# EAGLE library part DEC-FLIPCHIP (library con-dec2)
DEC Flip-Chip single card fingers
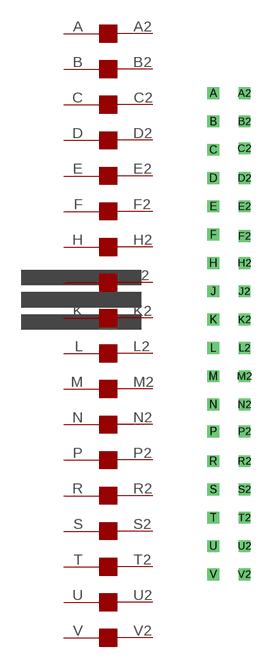
[diagram p0: symbol with the pads of DEC-FLIPCHIP; footprint DEC-FLIPCHIP]

Designator prefix -

## DEC-FLIPCHIP  [DEC-FLIPCHIP]
A  A  pas
A2  A2  pas
B  B  pas
B2  B2  pas
C  C  pas
C2  C2  pas
D  D  pas
D2  D2  pas
E  E  pas
E2  E2  pas
F  F  pas
F2  F2  pas
H  H  pas
H2  H2  pas
J  J  pas
J2  J2  pas
K  K  pas
K2  K2  pas
L  L  pas
L2  L2  pas
M  M  pas
M2  M2  pas
N  N  pas
N2  N2  pas
P  P  pas
P2  P2  pas
R  R  pas
R2  R2  pas
S  S  pas
S2  S2  pas
T  T  pas
T2  T2  pas
U  U  pas
U2  U2  pas
V  V  pas
V2  V2  pas

## Footprint DEC-FLIPCHIP (pad centres in mm)
Single Flip Chip fingers
drill 0.813 square: A -7.303,26.988; A2 -3.81,26.988; B -7.303,23.812; B2 -3.81,23.812; C -7.303,20.637; C2 -3.81,20.796; D -7.303,17.462; D2 -3.81,17.462; E -7.303,14.287; E2 -3.81,14.287; F -7.303,11.113; F2 -3.81,10.954; H -7.303,7.938; H2 -3.81,7.938; J -7.303,4.763; J2 -3.81,4.763; K -7.303,1.587; K2 -3.81,1.587; L -7.303,-1.587; L2 -3.81,-1.587; M -7.303,-4.763; M2 -3.81,-4.763; N -7.302,-7.938; N2 -3.81,-7.938; P -7.303,-10.954; P2 -3.81,-10.954; R -7.303,-14.287; R2 -3.81,-14.288; S -7.303,-17.462; S2 -3.81,-17.462; T -7.303,-20.637; T2 -3.81,-20.637; U -7.303,-23.812; U2 -3.81,-23.813; V -7.303,-26.988; V2 -3.81,-26.988